# EAGLE library part SKAARDUINO_BACK_FULL (library SKAARHOJ)
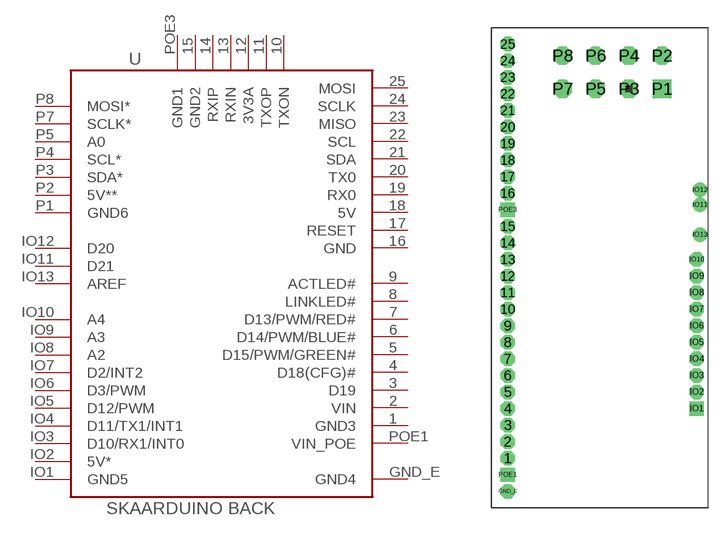
[diagram p65: symbol with the pads of SKAARDUINO_BACK_PTH_FULL; footprint SKAARDUINO_BACK_PTH_FULL]

Designator prefix -

## SKAARDUINO_BACK_FULL  [SKAARDUINO_BACK_PTH_FULL]
1  GND3  pwr
2  VIN  pwr
3  D19
4  D18(CFG)#  in
5  D15/PWM/GREEN#  out
6  D14/PWM/BLUE#  out
7  D13/PWM/RED#  out
8  LINKLED#  out
9  ACTLED#  out
10  TXON
11  TXOP
12  3V3A  pwr
13  RXIN
14  RXIP
15  GND2  pwr
16  GND  pwr
17  RESET  in
18  5V  pwr
19  RX0  in
20  TX0  out
21  SDA
22  SCL
23  MISO  in
24  SCLK  out
25  MOSI  out
GND_E  GND4  pwr
IO1  GND5  pwr
IO2  5V*  pwr
IO3  D10/RX1/INT0
IO4  D11/TX1/INT1
IO5  D12/PWM
IO6  D3/PWM
IO7  D2/INT2
IO8  A2
IO9  A3
IO10  A4
IO11  D21
IO12  D20
IO13  AREF
P1  GND6  pwr
P2  5V**  pwr
P3  SDA*
P4  SCL*
P5  A0
P7  SCLK*  out
P8  MOSI*  out
POE1  VIN_POE  pwr
POE3  GND1  pwr

## Footprint SKAARDUINO_BACK_PTH_FULL (pad centres in mm)
drill 0.6 pad 1.016 octagon: 1 2.159,3.81; 2 2.159,5.08; 3 2.159,6.35; 4 2.159,7.62; 5 2.159,8.89; 6 2.159,10.16; 7 2.159,11.43; 8 2.159,12.7; 9 2.159,13.97; 10 2.159,15.24; 11 2.159,16.51; 12 2.159,17.78; 13 2.159,19.05; 14 2.159,20.32; 15 2.159,21.59; 16 2.159,24.13; 17 2.159,25.4; 18 2.159,26.67; 19 2.159,27.94; 20 2.159,29.21; 21 2.159,30.48; 22 2.159,31.75; 23 2.159,33.02; 24 2.159,34.29; 25 2.159,35.56; GND_E 2.159,1.27; IO2 16.637,8.89; IO3 16.637,10.16; IO4 16.637,11.43; IO5 16.637,12.7; IO6 16.637,13.97; IO7 16.637,15.24; IO8 16.637,16.51; IO9 16.637,17.78; IO10 16.637,19.05
drill 0.6 pad 1.016 square: IO1 16.637,7.62; POE1 2.159,2.54; POE3 2.159,22.86
drill 0.6 pad 0.889: IO11 16.891,23.241; IO12 16.891,24.384; IO13 16.891,20.955
drill 0.9 square: P1 13.97,32.131
drill 0.9 octagon: P2 13.97,34.671; P3 11.43,32.131; P4 11.43,34.671; P5 8.89,32.131; P6 8.89,34.671; P7 6.35,32.131; P8 6.35,34.671